# Altium integrated library RF Micro RF Amplifier.IntLib: 23 symbols
Pins are listed as number, name and electrical type; pins without a type are passive.

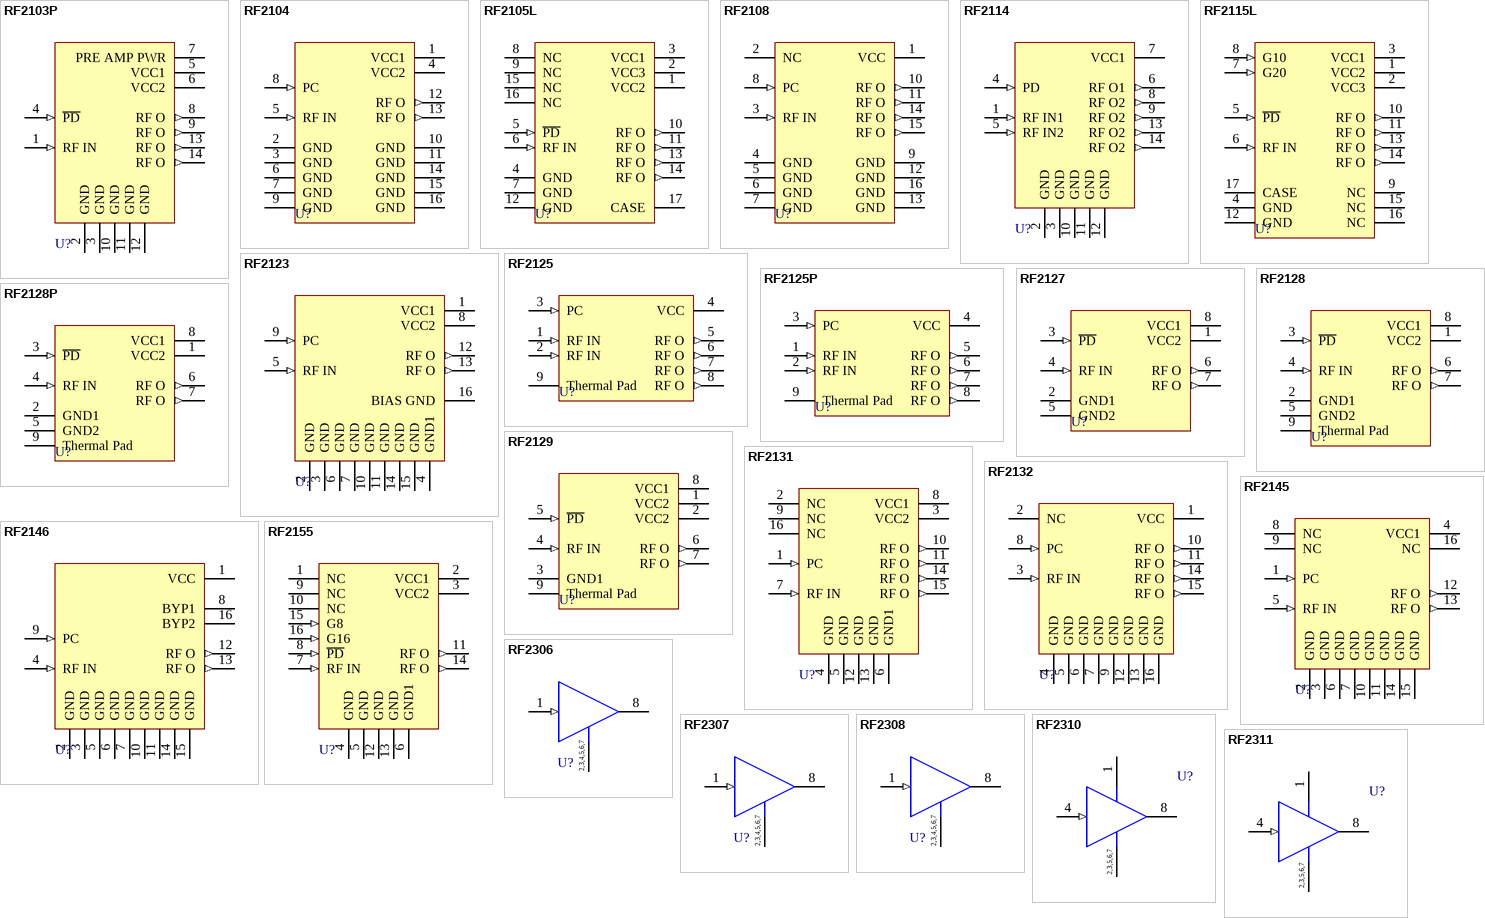
[diagram p0: symbols RF2103P to RF2311]

## RF2103P
designator U?
Medium-Power Linear Amplifier; Published: 8-Jun-2000; LatestRevisionDate: 13-Apr-2006; LatestRevisionNote: IPC-7351 Footprint Added.; DatasheetVersion: Rev. B1; PackageVersion: 1997; PackageReference: SOP-14; Publisher: Altium Limited; PackageDescription: 14-Pin Small Outline Integrated Circuit 1.27 mm Pitch; Code_IPC: SOIC127P600-14; ComponentLink1Description: Manufacturer Link; ComponentLink1URL: http://www.rfmd.com/; ComponentLink2Description: Datasheet; ComponentLink2URL: http://www.rfmd.com/DataBooks/db97/2103P.pdf
footprint SOP-14_N (SOIC, 14-Leads, Body 8.7x3.9mm, Pitch 1.27mm, IPC Medium Density)
footprint SOP-14_L (SOIC, 14-Leads, Body 8.7x3.9mm, Pitch 1.27mm, IPC High Density)
footprint SOP-14_M (SOIC, 14-Leads, Body 8.7x3.9mm, Pitch 1.27mm, IPC Low Density)
pins: 1 RF IN (in), 2 GND (power), 3 GND (power), 4 ~{PD} (in), 5 VCC1 (power), 6 VCC2 (power), 7 PRE AMP PWR (power), 8 RF O (out), 9 RF O (out), 10 GND (power), 11 GND (power), 12 GND (power), 13 RF O (out), 14 RF O (out)

## RF2104
designator U?
Medium-Power Amplifier; ComponentAvailability: Not for New Design. See Rf2155/Rf2114; Published: 8-Jun-2000; LatestRevisionDate: 13-Apr-2006; LatestRevisionNote: IPC-7351 Footprint Added.; DatasheetVersion: Rev. C1; PackageVersion: 1997; PackageReference: SOP-16-QBW1; Publisher: Altium Limited; PackageDescription: 16-Pin Small Outline Integrated Circuit 1.27 mm Pitch; ComponentLink1Description: Manufacturer Link; ComponentLink1URL: http://www.rfmd.com/; ComponentLink2Description: Datasheet; ComponentLink2URL: http://www.rfmd.com/DataBooks/db97/2104.pdf
footprint SOP-16-QBW1_N (SOIC, 16-Leads, Body 9.9x3.9mm, Pitch 1.27mm, IPC Medium Density)
footprint SOP-16-QBW1_L (SOIC, 16-Leads, Body 9.9x3.9mm, Pitch 1.27mm, IPC High Density)
footprint SOP-16-QBW1_M (SOIC, 16-Leads, Body 9.9x3.9mm, Pitch 1.27mm, IPC Low Density)
pins: 1 VCC1 (power), 2 GND (power), 3 GND (power), 4 VCC2 (power), 5 RF IN (in), 6 GND (power), 7 GND (power), 8 PC (in), 9 GND (power), 10 GND (power), 11 GND (power), 12 RF O (out), 13 RF O (out), 14 GND (power), 15 GND (power), 16 GND (power)

## RF2105L
designator U?
High-Power Linear UHF Amplifier; Note: Pin(s) 8,9,15,16 "No Connection".; Note: Connect pin 17 to GND; Published: 8-Jun-2000; LatestRevisionDate: 17-Jul-2002; LatestRevisionNote: Re-released for DXP Platform.; DatasheetVersion: Apr-1997; PackageVersion: 1997; PackageReference: QLCC-16; Publisher: Altium Limited; PackageDescription: Leadless Chip Carrier; 16 Terminals; Body 6.4 x 6.4 mm; ComponentLink1Description: Manufacturer Link; ComponentLink1URL: http://www.rfmd.com/
footprint QLCC-16 (Leadless Chip Carrier; 16 Terminals; Body 6.4 x 6.4 mm)
pins: 1 VCC2 (power), 2 VCC3 (power), 3 VCC1 (power), 4 GND (power), 5 ~{PD} (in), 6 RF IN (in), 7 GND (power), 8 NC, 9 NC, 10 RF O (out), 11 RF O (out), 12 GND (power), 13 RF O (out), 14 RF O (out), 15 NC, 16 NC, 17 CASE (power)

## RF2108
designator U?
Linear Power Amplifier; Note: Pin(s) 2 "No Connection".; Published: 8-Jun-2000; LatestRevisionDate: 13-Apr-2006; LatestRevisionNote: IPC-7351 Footprint Added.; DatasheetVersion: Apr-1997; PackageVersion: 1997; PackageReference: SOP-16-BATWING; Publisher: Altium Limited; PackageDescription: 16-Pin Small Outline Integrated Circuit 1.27 mm Pitch; ComponentLink1Description: Manufacturer Link; ComponentLink1URL: http://www.rfmd.com/
footprint SOP-16-BATWING_N (SOIC, 16-Leads, Body 9.9x3.9mm, Pitch 1.27mm, IPC Medium Density)
footprint SOP-16-BATWING_L (SOIC, 16-Leads, Body 9.9x3.9mm, Pitch 1.27mm, IPC High Density)
footprint SOP-16-BATWING_M (SOIC, 16-Leads, Body 9.9x3.9mm, Pitch 1.27mm, IPC Low Density)
pins: 1 VCC (power), 2 NC, 3 RF IN (in), 4 GND (power), 5 GND (power), 6 GND (power), 7 GND (power), 8 PC (in), 9 GND (power), 10 RF O (out), 11 RF O (out), 12 GND (power), 13 GND (power), 14 RF O (out), 15 RF O (out), 16 GND (power)

## RF2114
designator U?
Medium-Power Linear Amplifier; Published: 8-Jun-2000; LatestRevisionDate: 13-Apr-2006; LatestRevisionNote: IPC-7351 Footprint Added.; DatasheetVersion: Rev. A7; PackageVersion: 1997; PackageReference: SOP-14; Publisher: Altium Limited; PackageDescription: 14-Pin Small Outline Integrated Circuit 1.27 mm Pitch; Code_IPC: SOIC127P600-14; ComponentLink1Description: Manufacturer Link; ComponentLink1URL: http://www.rfmd.com/; ComponentLink2Description: Datasheet; ComponentLink2URL: http://www.rfmd.com/DataBooks/db97/2103P.pdf
footprint SOP-14_N (SOIC, 14-Leads, Body 8.7x3.9mm, Pitch 1.27mm, IPC Medium Density)
footprint SOP-14_L (SOIC, 14-Leads, Body 8.7x3.9mm, Pitch 1.27mm, IPC High Density)
footprint SOP-14_M (SOIC, 14-Leads, Body 8.7x3.9mm, Pitch 1.27mm, IPC Low Density)
pins: 1 RF IN1 (in), 2 GND (power), 3 GND (power), 4 PD (in), 5 RF IN2 (in), 6 RF O1 (out), 7 VCC1 (power), 8 RF O2 (out), 9 RF O2 (out), 10 GND (power), 11 GND (power), 12 GND (power), 13 RF O2 (out), 14 RF O2 (out)

## RF2115L
designator U?
High-Power UHF Amplifier; Note: Pin(s) 8,9,15,16 "No Connection".; Note: Connect pin 17 to GND; Published: 8-Jun-2000; LatestRevisionDate: 17-Jul-2002; LatestRevisionNote: Re-released for DXP Platform.; DatasheetVersion: Apr-1997; PackageVersion: 1997; PackageReference: QLCC-16; Publisher: Altium Limited; PackageDescription: Leadless Chip Carrier; 16 Terminals; Body 6.4 x 6.4 mm; ComponentLink1Description: Manufacturer Link; ComponentLink1URL: http://www.rfmd.com/
footprint QLCC-16 (Leadless Chip Carrier; 16 Terminals; Body 6.4 x 6.4 mm)
pins: 1 VCC2 (power), 2 VCC3 (power), 3 VCC1 (power), 4 GND (power), 5 ~{PD} (in), 6 RF IN (in), 7 G20 (in), 8 G10 (in), 9 NC, 10 RF O (out), 11 RF O (out), 12 GND (power), 13 RF O (out), 14 RF O (out), 15 NC, 16 NC, 17 CASE (power)

## RF2123
designator U?
GSM Power Amplifier; Published: 8-Jun-2000; LatestRevisionDate: 13-Apr-2006; LatestRevisionNote: IPC-7351 Footprint Added.; DatasheetVersion: Apr-1997; PackageVersion: 1997; PackageReference: SOP-16-QBW1; Publisher: Altium Limited; PackageDescription: 16-Pin Small Outline Integrated Circuit 1.27 mm Pitch; ComponentLink1Description: Manufacturer Link; ComponentLink1URL: http://www.rfmd.com/
footprint SOP-16-QBW1_N (SOIC, 16-Leads, Body 9.9x3.9mm, Pitch 1.27mm, IPC Medium Density)
footprint SOP-16-QBW1_L (SOIC, 16-Leads, Body 9.9x3.9mm, Pitch 1.27mm, IPC High Density)
footprint SOP-16-QBW1_M (SOIC, 16-Leads, Body 9.9x3.9mm, Pitch 1.27mm, IPC Low Density)
pins: 1 VCC1 (power), 2 GND (power), 3 GND (power), 4 GND1 (power), 5 RF IN (in), 6 GND (power), 7 GND (power), 8 VCC2 (power), 9 PC (in), 10 GND (power), 11 GND (power), 12 RF O (out), 13 RF O (out), 14 GND (power), 15 GND (power), 16 BIAS GND (power)

## RF2125
designator U?
High-Power Linear Amplifier; Note: Connect pin 9 to GND; Published: 8-Jun-2000; LatestRevisionDate: 13-Apr-2006; LatestRevisionNote: IPC-7351 Footprint Added.; DatasheetVersion: Apr-1997; PackageVersion: 1997; PackageReference: SOP-8-C; Publisher: Altium Limited; PackageDescription: 8-Pin Small Outline Package 1.27 mm Pitch; ComponentLink1Description: Manufacturer Link; ComponentLink1URL: http://www.rfmd.com/
footprint SOP-8-C_N (SOP, 8-Leads, Body 4.5x4.1mm, Pitch 1.27mm, IPC Medium Density)
footprint SOP-8-C_L (SOP, 8-Leads, Body 4.5x4.1mm, Pitch 1.27mm, IPC High Density)
footprint SOP-8-C_M (SOP, 8-Leads, Body 4.5x4.1mm, Pitch 1.27mm, IPC Low Density)
pins: 1 RF IN (in), 2 RF IN (in), 3 PC (in), 4 VCC (power), 5 RF O (out), 6 RF O (out), 7 RF O (out), 8 RF O (out), 9 Thermal Pad (power)

## RF2125P
designator U?
High-Power Linear Amplifier; Note: Connect pin 9 to GND; Published: 8-Jun-2000; LatestRevisionDate: 13-Apr-2006; LatestRevisionNote: IPC-7351 Footprint Added.; DatasheetVersion: Rev. A5; PackageVersion: 1997; PackageReference: PSOP-8; Publisher: Altium Limited; PackageDescription: 8-Pin Small Outline Integrated Circuit 1.27 mm Pitch; ComponentLink1Description: Manufacturer Link; ComponentLink1URL: http://www.rfmd.com/; ComponentLink2Description: Datasheet; ComponentLink2URL: http://www.rfmd.com/DataBooks/db97/2125P.pdf
footprint PSOP-8_N (SOIC, 8-Leads, Body 4.9x3.9mm, Pitch 1.27mm, IPC Medium Density)
footprint PSOP-8_L (SOIC, 8-Leads, Body 4.9x3.9mm, Pitch 1.27mm, IPC High Density)
footprint PSOP-8_M (SOIC, 8-Leads, Body 4.9x3.9mm, Pitch 1.27mm, IPC Low Density)
pins: 1 RF IN (in), 2 RF IN (in), 3 PC (in), 4 VCC (power), 5 RF O (out), 6 RF O (out), 7 RF O (out), 8 RF O (out), 9 Thermal Pad (power)

## RF2127
designator U?
Medium-Power Linear Amplifier; Published: 8-Jun-2000; LatestRevisionDate: 13-Apr-2006; LatestRevisionNote: IPC-7351 Footprint Added.; DatasheetVersion: Apr-1997; PackageVersion: 1997; PackageReference: SOP-8; Publisher: Altium Limited; PackageDescription: 8-Pin Small Outline Integrated Circuit 1.27 mm Pitch; ComponentLink1Description: Manufacturer Link; ComponentLink1URL: http://www.rfmd.com/
footprint SOP-8_N (SOIC, 8-Leads, Body 4.9x3.9mm, Pitch 1.27mm, IPC Medium Density)
footprint SOP-8_L (SOIC, 8-Leads, Body 4.9x3.9mm, Pitch 1.27mm, IPC High Density)
footprint SOP-8_M (SOIC, 8-Leads, Body 4.9x3.9mm, Pitch 1.27mm, IPC Low Density)
pins: 1 VCC2 (power), 2 GND1 (power), 3 ~{PD} (in), 4 RF IN (in), 5 GND2 (power), 6 RF O (out), 7 RF O (out), 8 VCC1 (power)

## RF2128
designator U?
Medium-Power Linear Amplifier; Note: Connect pin 9 to GND; Published: 8-Jun-2000; LatestRevisionDate: 13-Apr-2006; LatestRevisionNote: IPC-7351 Footprint Added.; DatasheetVersion: Apr-1997; PackageVersion: 1997; PackageReference: SOP-8-C; Publisher: Altium Limited; PackageDescription: 8-Pin Small Outline Package 1.27 mm Pitch; ComponentLink1Description: Manufacturer Link; ComponentLink1URL: http://www.rfmd.com/
footprint SOP-8-C_N (SOP, 8-Leads, Body 4.5x4.1mm, Pitch 1.27mm, IPC Medium Density)
footprint SOP-8-C_L (SOP, 8-Leads, Body 4.5x4.1mm, Pitch 1.27mm, IPC High Density)
footprint SOP-8-C_M (SOP, 8-Leads, Body 4.5x4.1mm, Pitch 1.27mm, IPC Low Density)
pins: 1 VCC2 (power), 2 GND1 (power), 3 ~{PD} (in), 4 RF IN (in), 5 GND2 (power), 6 RF O (out), 7 RF O (out), 8 VCC1 (power), 9 Thermal Pad (power)

## RF2128P
designator U?
Medium-Power Linear Amplifier; Note: Connect pin 9 to GND; Published: 8-Jun-2000; LatestRevisionDate: 13-Apr-2006; LatestRevisionNote: IPC-7351 Footprint Added.; DatasheetVersion: Apr-1997; PackageVersion: 1997; PackageReference: PSOP-8; Publisher: Altium Limited; PackageDescription: 8-Pin Small Outline Integrated Circuit 1.27 mm Pitch; ComponentLink1Description: Manufacturer Link; ComponentLink1URL: http://www.rfmd.com/
footprint PSOP-8_N (SOIC, 8-Leads, Body 4.9x3.9mm, Pitch 1.27mm, IPC Medium Density)
footprint PSOP-8_L (SOIC, 8-Leads, Body 4.9x3.9mm, Pitch 1.27mm, IPC High Density)
footprint PSOP-8_M (SOIC, 8-Leads, Body 4.9x3.9mm, Pitch 1.27mm, IPC Low Density)
pins: 1 VCC2 (power), 2 GND1 (power), 3 ~{PD} (in), 4 RF IN (in), 5 GND2 (power), 6 RF O (out), 7 RF O (out), 8 VCC1 (power), 9 Thermal Pad (power)

## RF2129
designator U?
3V, 2.5GHZ  Medium-Power Amplifier; Note: Connect pin 9 to GND; Published: 8-Jun-2000; LatestRevisionDate: 13-Apr-2006; LatestRevisionNote: IPC-7351 Footprint Added.; DatasheetVersion: Apr-1997; PackageVersion: 1997; PackageReference: PSOP-8; Publisher: Altium Limited; PackageDescription: 8-Pin Small Outline Integrated Circuit 1.27 mm Pitch; ComponentLink1Description: Manufacturer Link; ComponentLink1URL: http://www.rfmd.com/
footprint PSOP-8_N (SOIC, 8-Leads, Body 4.9x3.9mm, Pitch 1.27mm, IPC Medium Density)
footprint PSOP-8_L (SOIC, 8-Leads, Body 4.9x3.9mm, Pitch 1.27mm, IPC High Density)
footprint PSOP-8_M (SOIC, 8-Leads, Body 4.9x3.9mm, Pitch 1.27mm, IPC Low Density)
pins: 1 VCC2 (power), 2 VCC2 (power), 3 GND1 (power), 4 RF IN (in), 5 ~{PD} (in), 6 RF O (out), 7 RF O (out), 8 VCC1 (power), 9 Thermal Pad (power)

## RF2131
designator U?
High Efficiency AMPS/ETACS Amplifier; Note: Pin(s) 2,9,16 "No Connection".; Published: 8-Jun-2000; LatestRevisionDate: 13-Apr-2006; LatestRevisionNote: IPC-7351 Footprint Added.; DatasheetVersion: Rev. B4; PackageVersion: 1997; PackageReference: SOP-16-BATWING; Publisher: Altium Limited; PackageDescription: 16-Pin Small Outline Integrated Circuit 1.27 mm Pitch; ComponentLink1Description: Manufacturer Link; ComponentLink1URL: http://www.rfmd.com/; ComponentLink2Description: Datasheet; ComponentLink2URL: http://www.rfmd.com/DataBooks/db97/2131.pdf
footprint SOP-16-BATWING_N (SOIC, 16-Leads, Body 9.9x3.9mm, Pitch 1.27mm, IPC Medium Density)
footprint SOP-16-BATWING_L (SOIC, 16-Leads, Body 9.9x3.9mm, Pitch 1.27mm, IPC High Density)
footprint SOP-16-BATWING_M (SOIC, 16-Leads, Body 9.9x3.9mm, Pitch 1.27mm, IPC Low Density)
pins: 1 PC (in), 2 NC, 3 VCC2 (power), 4 GND (power), 5 GND (power), 6 GND1 (power), 7 RF IN (in), 8 VCC1 (power), 9 NC, 10 RF O (out), 11 RF O (out), 12 GND (power), 13 GND (power), 14 RF O (out), 15 RF O (out), 16 NC

## RF2132
designator U?
Linear Power Amplifier; Note: Pin(s) 2 "No Connection".; Published: 8-Jun-2000; LatestRevisionDate: 13-Apr-2006; LatestRevisionNote: IPC-7351 Footprint Added.; DatasheetVersion: Rev. B9; PackageVersion: 1997; PackageReference: SOP-16-BATWING; Publisher: Altium Limited; PackageDescription: 16-Pin Small Outline Integrated Circuit 1.27 mm Pitch; ComponentLink1Description: Manufacturer Link; ComponentLink1URL: http://www.rfmd.com/; ComponentLink2Description: Datasheet; ComponentLink2URL: http://www.rfmd.com/DataBooks/db97/2132.pdf
footprint SOP-16-BATWING_N (SOIC, 16-Leads, Body 9.9x3.9mm, Pitch 1.27mm, IPC Medium Density)
footprint SOP-16-BATWING_L (SOIC, 16-Leads, Body 9.9x3.9mm, Pitch 1.27mm, IPC High Density)
footprint SOP-16-BATWING_M (SOIC, 16-Leads, Body 9.9x3.9mm, Pitch 1.27mm, IPC Low Density)
pins: 1 VCC (power), 2 NC, 3 RF IN (in), 4 GND (power), 5 GND (power), 6 GND (power), 7 GND (power), 8 PC (in), 9 GND (power), 10 RF O (out), 11 RF O (out), 12 GND (power), 13 GND (power), 14 RF O (out), 15 RF O (out), 16 GND (power)

## RF2145
designator U?
DCS1800/1900 Power Amplifier; Note: Pin(s) 8,9,15,16 "No Connection".; Published: 8-Jun-2000; LatestRevisionDate: 13-Apr-2006; LatestRevisionNote: IPC-7351 Footprint Added.; DatasheetVersion: Apr-1997; PackageVersion: 1997; PackageReference: SOP-16-QBW1; Publisher: Altium Limited; PackageDescription: 16-Pin Small Outline Integrated Circuit 1.27 mm Pitch; ComponentLink1Description: Manufacturer Link; ComponentLink1URL: http://www.rfmd.com/
footprint SOP-16-QBW1_N (SOIC, 16-Leads, Body 9.9x3.9mm, Pitch 1.27mm, IPC Medium Density)
footprint SOP-16-QBW1_L (SOIC, 16-Leads, Body 9.9x3.9mm, Pitch 1.27mm, IPC High Density)
footprint SOP-16-QBW1_M (SOIC, 16-Leads, Body 9.9x3.9mm, Pitch 1.27mm, IPC Low Density)
pins: 1 PC (in), 2 GND (power), 3 GND (power), 4 VCC1 (power), 5 RF IN (in), 6 GND (power), 7 GND (power), 8 NC, 9 NC, 10 GND (power), 11 GND (power), 12 RF O (out), 13 RF O (out), 14 GND (power), 15 GND (power), 16 NC

## RF2146
designator U?
PCS Linear Power Amplifier; Published: 8-Jun-2000; LatestRevisionDate: 13-Apr-2006; LatestRevisionNote: IPC-7351 Footprint Added.; DatasheetVersion: Rev. A3; PackageVersion: 1997; PackageReference: SOP-16-QBW1; Publisher: Altium Limited; PackageDescription: 16-Pin Small Outline Integrated Circuit 1.27 mm Pitch; ComponentLink1Description: Manufacturer Link; ComponentLink1URL: http://www.rfmd.com/; ComponentLink2Description: Datasheet; ComponentLink2URL: http://www.rfmd.com/DataBooks/db97/2146.pdf
footprint SOP-16-QBW1_N (SOIC, 16-Leads, Body 9.9x3.9mm, Pitch 1.27mm, IPC Medium Density)
footprint SOP-16-QBW1_L (SOIC, 16-Leads, Body 9.9x3.9mm, Pitch 1.27mm, IPC High Density)
footprint SOP-16-QBW1_M (SOIC, 16-Leads, Body 9.9x3.9mm, Pitch 1.27mm, IPC Low Density)
pins: 1 VCC (power), 2 GND (power), 3 GND (power), 4 RF IN (in), 5 GND (power), 6 GND (power), 7 GND (power), 8 BYP1, 9 PC (in), 10 GND (power), 11 GND (power), 12 RF O (out), 13 RF O (out), 14 GND (power), 15 GND (power), 16 BYP2

## RF2155
designator U?
3V Programmable Gain Power Amplifier; Note: Pin(s) 1,9,10 "No Connection".; ComponentAvailability: Not for New Design; Published: 8-Jun-2000; LatestRevisionDate: 13-Apr-2006; LatestRevisionNote: IPC-7351 Footprint Added.; DatasheetVersion: Rev. B6; PackageVersion: 1997; PackageReference: SOP-16-BATWING; Publisher: Altium Limited; PackageDescription: 16-Pin Small Outline Integrated Circuit 1.27 mm Pitch; ComponentLink1Description: Manufacturer Link; ComponentLink1URL: http://www.rfmd.com/; ComponentLink2Description: Datasheet; ComponentLink2URL: http://www.rfmd.com/DataBooks/db97/2155.pdf
footprint SOP-16-BATWING_N (SOIC, 16-Leads, Body 9.9x3.9mm, Pitch 1.27mm, IPC Medium Density)
footprint SOP-16-BATWING_L (SOIC, 16-Leads, Body 9.9x3.9mm, Pitch 1.27mm, IPC High Density)
footprint SOP-16-BATWING_M (SOIC, 16-Leads, Body 9.9x3.9mm, Pitch 1.27mm, IPC Low Density)
pins: 1 NC, 2 VCC1 (power), 3 VCC2 (power), 4 GND (power), 5 GND (power), 6 GND1 (power), 7 RF IN (in), 8 ~{PD} (in), 9 NC, 10 NC, 11 RF O (out), 12 GND (power), 13 GND (power), 14 RF O (out), 15 G8 (in), 16 G16 (in)

## RF2306
designator U?
General Purpose Amplifier; Published: 8-Jun-2000; LatestRevisionDate: 13-Apr-2006; LatestRevisionNote: IPC-7351 Footprint Added.; DatasheetVersion: Apr-1997; PackageVersion: 1997; PackageReference: SOP-8; Publisher: Altium Limited; PackageDescription: 8-Pin Small Outline Integrated Circuit 1.27 mm Pitch; ComponentLink1Description: Manufacturer Link; ComponentLink1URL: http://www.rfmd.com/
footprint SOP-8_N (SOIC, 8-Leads, Body 4.9x3.9mm, Pitch 1.27mm, IPC Medium Density)
footprint SOP-8_L (SOIC, 8-Leads, Body 4.9x3.9mm, Pitch 1.27mm, IPC High Density)
footprint SOP-8_M (SOIC, 8-Leads, Body 4.9x3.9mm, Pitch 1.27mm, IPC Low Density)
pins: 1 RF IN (in), 2 GND (power), 3 GND (power), 4 GND (power), 5 GND (power), 6 GND (power), 7 GND (power), 8 RF O/VCC (oc)
text: 2,3,4,5,6,7

## RF2307
designator U?
General Purpose Amplifier; Published: 8-Jun-2000; LatestRevisionDate: 13-Apr-2006; LatestRevisionNote: IPC-7351 Footprint Added.; DatasheetVersion: Apr-1997; PackageVersion: 1997; PackageReference: SOP-8; Publisher: Altium Limited; PackageDescription: 8-Pin Small Outline Integrated Circuit 1.27 mm Pitch; ComponentLink1Description: Manufacturer Link; ComponentLink1URL: http://www.rfmd.com/
footprint SOP-8_N (SOIC, 8-Leads, Body 4.9x3.9mm, Pitch 1.27mm, IPC Medium Density)
footprint SOP-8_L (SOIC, 8-Leads, Body 4.9x3.9mm, Pitch 1.27mm, IPC High Density)
footprint SOP-8_M (SOIC, 8-Leads, Body 4.9x3.9mm, Pitch 1.27mm, IPC Low Density)
pins: 1 RF IN (in), 2 GND (power), 3 GND (power), 4 GND (power), 5 GND (power), 6 GND (power), 7 GND (power), 8 RF O/VCC (oc)
text: 2,3,4,5,6,7

## RF2308
designator U?
General Purpose Amplifier; Published: 8-Jun-2000; LatestRevisionDate: 13-Apr-2006; LatestRevisionNote: IPC-7351 Footprint Added.; DatasheetVersion: Apr-1997; PackageVersion: 1997; PackageReference: SOP-8; Publisher: Altium Limited; PackageDescription: 8-Pin Small Outline Integrated Circuit 1.27 mm Pitch; ComponentLink1Description: Manufacturer Link; ComponentLink1URL: http://www.rfmd.com/
footprint SOP-8_N (SOIC, 8-Leads, Body 4.9x3.9mm, Pitch 1.27mm, IPC Medium Density)
footprint SOP-8_L (SOIC, 8-Leads, Body 4.9x3.9mm, Pitch 1.27mm, IPC High Density)
footprint SOP-8_M (SOIC, 8-Leads, Body 4.9x3.9mm, Pitch 1.27mm, IPC Low Density)
pins: 1 RF IN (in), 2 GND (power), 3 GND (power), 4 GND (power), 5 GND (power), 6 GND (power), 7 GND (power), 8 RF O/VCC (oc)
text: 2,3,4,5,6,7

## RF2310
designator U?
Wideband General Purpose Amplifier; Published: 8-Jun-2000; LatestRevisionDate: 13-Apr-2006; LatestRevisionNote: IPC-7351 Footprint Added.; DatasheetVersion: Apr-1997; PackageVersion: 1997; PackageReference: SOP-8; Publisher: Altium Limited; PackageDescription: 8-Pin Small Outline Integrated Circuit 1.27 mm Pitch; ComponentLink1Description: Manufacturer Link; ComponentLink1URL: http://www.rfmd.com/
footprint SOP-8_N (SOIC, 8-Leads, Body 4.9x3.9mm, Pitch 1.27mm, IPC Medium Density)
footprint SOP-8_L (SOIC, 8-Leads, Body 4.9x3.9mm, Pitch 1.27mm, IPC High Density)
footprint SOP-8_M (SOIC, 8-Leads, Body 4.9x3.9mm, Pitch 1.27mm, IPC Low Density)
pins: 1 VCC (power), 2 GND (power), 3 GND (power), 4 RF IN (in), 5 GND (power), 6 GND (power), 7 GND (power), 8 RF O (oc)
text: 2,3,5,6,7

## RF2311
designator U?
General Purpose Amplifier; Published: 8-Jun-2000; LatestRevisionDate: 13-Apr-2006; LatestRevisionNote: IPC-7351 Footprint Added.; DatasheetVersion: Apr-1997; PackageVersion: 1997; PackageReference: SOP-8; Publisher: Altium Limited; PackageDescription: 8-Pin Small Outline Integrated Circuit 1.27 mm Pitch; ComponentLink1Description: Manufacturer Link; ComponentLink1URL: http://www.rfmd.com/
footprint SOP-8_N (SOIC, 8-Leads, Body 4.9x3.9mm, Pitch 1.27mm, IPC Medium Density)
footprint SOP-8_L (SOIC, 8-Leads, Body 4.9x3.9mm, Pitch 1.27mm, IPC High Density)
footprint SOP-8_M (SOIC, 8-Leads, Body 4.9x3.9mm, Pitch 1.27mm, IPC Low Density)
pins: 1 VCC (power), 2 GND (power), 3 GND (power), 4 RF IN (in), 5 GND (power), 6 GND (power), 7 GND (power), 8 RF O (oc)
text: 2,3,5,6,7